# Altium footprint library PCB - CONNECTOR - SAMTEC - SAMTEC SSW-109-03-T-S.PCBLIB: 1 footprints
Each footprint in its own frame and in the unit in brackets; x right, y up, seen from the top. Pads: shape width x height; smd on the part's side, far side on the other; paste and mask are expansions set on the pad; w line width, h text height; cw(c..) or ccw(c..) is an arc to the next point about the centre after c.
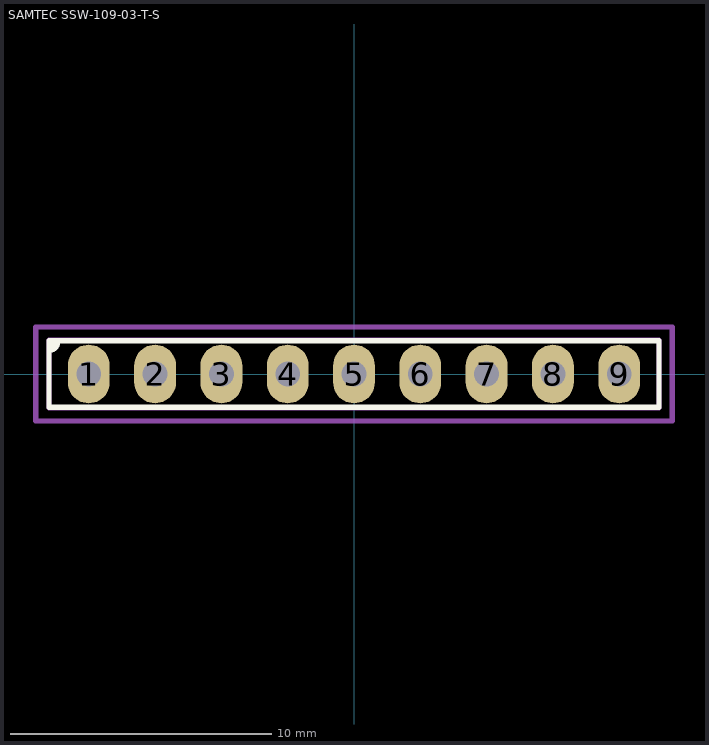
[diagram p0: the footprint, top view; thin cyan lines are the x and y axes]

## SAMTEC SSW-109-03-T-S [mm]
height 8.51
pads (9):
  oval 1.6x2.25 hole 0.95: 1(-10.16,0) 2(-7.62,0) 3(-5.08,0) 4(-2.54,0) 5(0,0) 6(2.54,0) 7(5.08,0) 8(7.62,0) 9(10.16,0)
Top Overlay:
  region: -11.69,1.27 -11.35,1.27 -11.35,1.1 -11.55,0.9 -11.69,0.9
  lines w0.2: -11.69,0.9 ccw(c-11.69,1.24) -11.35,1.24 -11.35,1.27 ; -11.69,-1.27 11.69,-1.27 11.69,1.27 -11.69,1.27 -11.69,-1.27
Mechanical 13:
  lines w0.2: -11.69,-1.3 -11.69,1.3 11.69,1.3 11.69,-1.3 -11.69,-1.3
Mechanical 15:
  lines w0.2: -0.5,0 0.5,0 ; 0,-0.5 0,0.5 ; -12.19,-1.8 12.19,-1.8 12.19,1.8 -12.19,1.8 -12.19,-1.8
3D body "Samtec-SSW-109-03-T-S.STEP": height 8.51, standoff -10.01, extent -11.684,-1.206 11.684,1.207